# Altium schematic symbol library Ultrascale_SchLib.SchLib: 186 symbols (part 3 of 4)
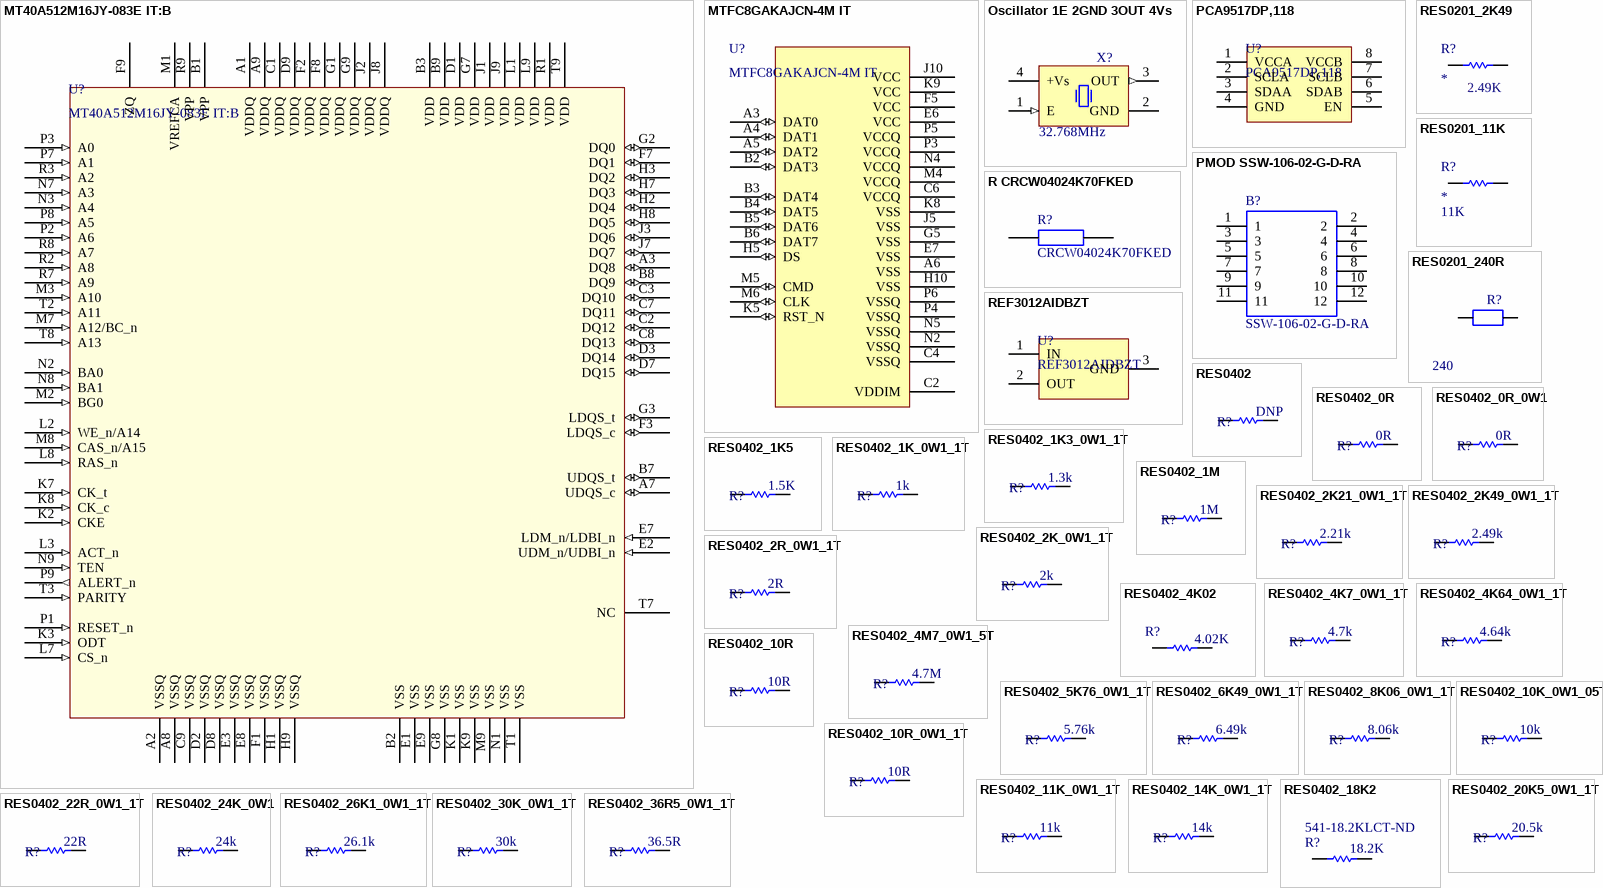
[diagram p10: symbols MT40A512M16JY-083E IT:B to RES0402_36R5_0W1_1T]

## RES0402_11K_0W1_1T
designator R?  value 11k  (hidden comment: RES0402_11K_0W1_1T)
RES SMD 11K OHM 1% 1/10W 0402; Manufacturer 1: Panasonic Electronic Components; Manufacturer Part Number 1: ERJ-2RKF1102X; Package: 0402; ComponentLink1Description: Datasheet; Power: 1/10W; Tolerance: 1%; Supplier 1: Digi-Key; Supplier Part Number 1: P11.0KLCT-ND
footprint RESC1005L_0402 (Chip Resistor, Body 1.1x0.5mm, IPC High Density)
simulation model RESISTOR (Resistor)
signal-integrity model Res
pins: 1, 2

## RES0402_14K_0W1_1T
designator R?  value 14k  (hidden comment: RES0402_14K_0W1_1T)
RES SMD 14K OHM 1% 1/10W 0402; Manufacturer 1: Panasonic Electronic Components; Manufacturer Part Number 1: ERJ-2RKF1402X; Package: 0402; ComponentLink1Description: Datasheet; Power: 1/10W; Tolerance: 1%; Supplier 1: Digi-Key; Supplier Part Number 1: P14.0KLCT-ND
footprint RESC1005L_0402 (Chip Resistor, Body 1.1x0.5mm, IPC High Density)
simulation model RESISTOR (Resistor)
signal-integrity model Res
pins: 1, 2

## RES0402_18K2
designator R?  value 18.2K  Supplier Part Number 1: 541-18.2KLCT-ND  (hidden comment: *)
RES SMD 18.2K OHM 1% 1/16W 0402; Manufacturer_Part_Number: CRCW040218K2FKED; Vendor: Vishay; Supersection: Passives; Section: Resistors; C: Copyright (C) 2015 Accelerated Designs. All rights reserved; Family: Surface Mount, Fixed; Manufacturer_Name: Vishay; Copyright: Copyright (C) 2015 Accelerated Designs. All rights reserved; RS_Part_Number: 6784684; Supplier 1: Digi-Key
footprint RES_CRCW_0402
pins: 1, 2

## RES0402_20K5_0W1_1T
designator R?  value 20.5k  (hidden comment: RES0402_20K5_0W1_1T)
RES SMD 20.5K OHM 1% 1/10W 0402; Manufacturer 1: Panasonic Electronic Components; Manufacturer Part Number 1: ERJ-2RKF2052X; Package: 0402; ComponentLink1Description: Datasheet; Power: 1/10W; Tolerance: 1%; Supplier 1: Digi-Key; Supplier Part Number 1: P20.5KLCT-ND
footprint RESC1005L_0402 (Chip Resistor, Body 1.1x0.5mm, IPC High Density)
simulation model RESISTOR (Resistor)
signal-integrity model Res
pins: 1, 2

## RES0402_22R_0W1_1T
designator R?  value 22R  (hidden comment: RES0402_22R_0W1_1T)
RES SMD 22 OHM 1% 1/10W 0402; Manufacturer 1: Panasonic Electronic Components; Manufacturer Part Number 1: ERJ-2RKF22R0X; Package: 0402; ComponentLink1Description: Datasheet; Power: 1/10W; Tolerance: 1%; Supplier 1: Digi-Key; Supplier Part Number 1: P22.0LCT-ND
footprint RESC1005L_0402 (Chip Resistor, Body 1.1x0.5mm, IPC High Density)
simulation model RESISTOR (Resistor)
signal-integrity model Res
pins: 1, 2

## RES0402_24K_0W1
designator R?  value 24k  (hidden comment: RES0402_24K_0W1)
RES SMD 24K OHM 1% 1/10W 0402; Manufacturer 1: Panasonic Electronic Components; Manufacturer Part Number 1: ERJ-2RKF2402X; Package: 0402; ComponentLink1Description: Datasheet; Power: 1/10W; Tolerance: 1%; Supplier 1: Digi-Key; Supplier Part Number 1: P24.0KLCT-ND
footprint RESC1005L_0402 (Chip Resistor, Body 1.1x0.5mm, IPC High Density)
simulation model RESISTOR (Resistor)
signal-integrity model Res
pins: 1, 2

## RES0402_26K1_0W1_1T
designator R?  value 26.1k  (hidden comment: RES0402_26K1_0W1_1T)
RES SMD 26.1K OHM 1% 1/10W 0402; Manufacturer 1: Panasonic Electronic Components; Manufacturer Part Number 1: ERJ-2RKF2612X; Package: 0402; ComponentLink1Description: Datasheet; Power: 1/10W; Tolerance: 1%; Supplier 1: Digi-Key; Supplier Part Number 1: P26.1KLCT-ND
footprint RESC1005L_0402 (Chip Resistor, Body 1.1x0.5mm, IPC High Density)
simulation model RESISTOR (Resistor)
signal-integrity model Res
pins: 1, 2

## RES0402_30K_0W1_1T
designator R?  value 30k  (hidden comment: RES0402_30K_0W1_1T)
RES SMD 30K OHM 1% 1/10W 0402; Manufacturer 1: Panasonic Electronic Components; Manufacturer Part Number 1: ERJ-2RKF3002X; Package: 0402; ComponentLink1Description: Datasheet; Power: 1/10W; Tolerance: ±1%; Supplier 1: Digikey; Supplier Part Number 1: P30.0KLCT-ND
footprint RESC1005L_0402 (Chip Resistor, Body 1.1x0.5mm, IPC High Density)
pins: 1, 2

## RES0402_36R5_0W1_1T
designator R?  value 36.5R  (hidden comment: RES0402_36R5_0W1_1T)
RES SMD 36.5 OHM 1% 1/10W 0402; Manufacturer 1: Panasonic Electronic Components; Manufacturer Part Number 1: ERJ-2RKF36R5X; Package: 0402; ComponentLink1Description: Datasheet; Power: 1/10W; Tolerance: 1%; Supplier 1: Digi-Key; Supplier Part Number 1: P36.5LCT-ND
footprint RESC1005L_0402 (Chip Resistor, Body 1.1x0.5mm, IPC High Density)
simulation model RESISTOR (Resistor)
signal-integrity model Res
pins: 1, 2

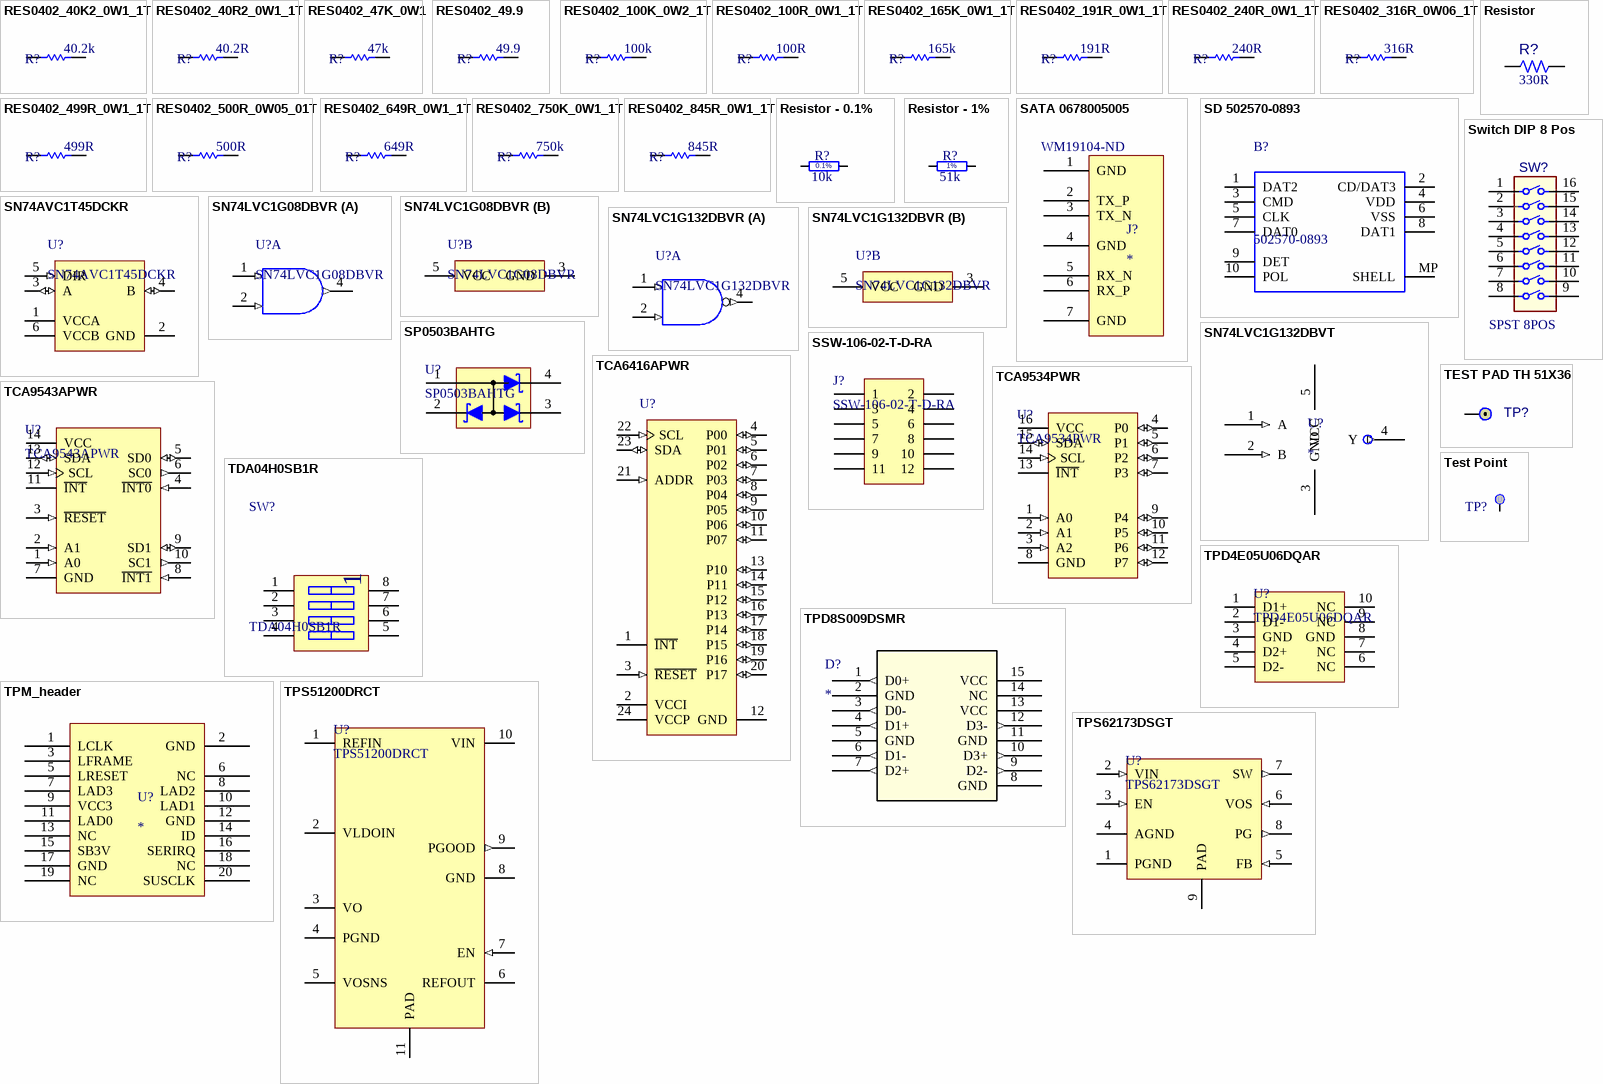
[diagram p5: symbols RES0402_40K2_0W1_1T to TPS62173DSGT]

## RES0402_40K2_0W1_1T
designator R?  value 40.2k  (hidden comment: RES0402_40K2_0W1_1T)
RES SMD 40.2K OHM 1% 1/10W 0402; Manufacturer 1: Panasonic Electronic Components; Manufacturer Part Number 1: ERJ-2RKF4022X; Package: 0402; ComponentLink1Description: Datasheet; Power: 1/10W; Tolerance: 1%; Supplier 1: Digi-Key; Supplier Part Number 1: P40.2KLCT-ND
footprint RESC1005L_0402 (Chip Resistor, Body 1.1x0.5mm, IPC High Density)
simulation model RESISTOR (Resistor)
signal-integrity model Res
pins: 1, 2

## RES0402_40R2_0W1_1T
designator R?  value 40.2R  (hidden comment: RES0402_40R2_0W1_1T)
RES SMD 40.2 OHM 1% 1/10W 0402; Manufacturer 1: Panasonic Electronic Components; Manufacturer Part Number 1: ERJ-2RKF40R2X; Package: 0402; ComponentLink1Description: Datasheet; Power: 1/10W; Tolerance: 1%; Supplier 1: Digi-Key; Supplier Part Number 1: P40.2LCT-ND
footprint RESC1005L_0402 (Chip Resistor, Body 1.1x0.5mm, IPC High Density)
simulation model RESISTOR (Resistor)
signal-integrity model Res
pins: 1, 2

## RES0402_47K_0W1
designator R?  value 47k  (hidden comment: RES0402_47K_0W1)
RES SMD 47K OHM 1% 1/10W 0402; Manufacturer 1: Panasonic Electronic Components; Manufacturer Part Number 1: ERJ-2RKF4702X; Package: 0402; ComponentLink1Description: Datasheet; Power: 1/10W; Tolerance: 1%; Supplier 1: Digi-Key; Supplier Part Number 1: P47.0KLCT-ND
footprint RESC1005L_0402 (Chip Resistor, Body 1.1x0.5mm, IPC High Density)
simulation model RESISTOR (Resistor)
signal-integrity model Res
pins: 1, 2

## RES0402_49.9
designator R?  value 49.9
RES SMD 49.9 OHM 1% 1/16W 0402; Manufacturer: Vishay Dale; Manufacturer Part Number: CRCW040249R9FKED; Power: 0.063W, 1/16W; Package: 0402; ComponentLink1Description: Datasheet; Tolerance: 1%; Supplier 1: Digi-Key; Supplier Part Number 1: 311-49.9LRCT-ND
footprint RESC1005L_0402 (Chip Resistor, Body 1.1x0.5mm, IPC High Density)
simulation model RESISTOR (Resistor)
signal-integrity model Res
pins: 1, 2

## RES0402_100K_0W2_1T
designator R?  value 100k  (hidden comment: RES0402_100K_0W2_1T)
RES SMD 100K OHM 1% 1/5W 0402; Manufacturer 1: Vishay Dale; Manufacturer Part Number 1: RCS0402100KFKED; Package: 0402; ComponentLink1Description: Datasheet; Power: 1/5W; Tolerance: 1%; Supplier 1: Digi-Key; Supplier Part Number 1: 541-2899-1-ND
footprint RESC1005L_0402 (Chip Resistor, Body 1.1x0.5mm, IPC High Density)
simulation model RESISTOR (Resistor)
signal-integrity model Res
pins: 1, 2

## RES0402_100R_0W1_1T
designator R?  value 100R  (hidden comment: RES0402_100R_0W1_1T)
RES SMD 100 OHM 1% 1/10W 0402; Manufacturer 1: Panasonic Electronic Components; Manufacturer Part Number 1: ERJ-2RKF1000X; Package: 0402; ComponentLink1Description: Datasheet; Power: 1/10W; Tolerance: 1%; Supplier 1: Digi-Key; Supplier Part Number 1: P100LCT-ND
footprint RESC1005L_0402 (Chip Resistor, Body 1.1x0.5mm, IPC High Density)
simulation model RESISTOR (Resistor)
signal-integrity model Res
pins: 1, 2

## RES0402_165K_0W1_1T
designator R?  value 165k  (hidden comment: RES0402_165K_0W1_1T)
RES SMD 165K OHM 1% 1/10W 0402; Manufacturer 1: Panasonic Electronic Components; Manufacturer Part Number 1: ERJ-2RKF1653X; Package: 0402; ComponentLink1Description: Datasheet; Power: 1/10W; Tolerance: ±1%; Supplier 1: Digikey; Supplier Part Number 1: P165KLCT-ND
footprint RESC1005L_0402 (Chip Resistor, Body 1.1x0.5mm, IPC High Density)
pins: 1, 2

## RES0402_191R_0W1_1T
designator R?  value 191R  (hidden comment: RES0402_191R_0W1_1T)
RES SMD 191 OHM 1% 1/10W 0402; Manufacturer 1: Panasonic Electronic Components; Manufacturer Part Number 1: ERJ-2RKF1910X; Package: 0402; ComponentLink1Description: Datasheet; Power: 1/10W; Tolerance: 1%; Supplier 1: Digi-Key; Supplier Part Number 1: P191LCT-ND
footprint RESC1005L_0402 (Chip Resistor, Body 1.1x0.5mm, IPC High Density)
simulation model RESISTOR (Resistor)
signal-integrity model Res
pins: 1, 2

## RES0402_240R_0W1_1T
designator R?  value 240R  (hidden comment: RES0402_240R_0W1_1T)
RES SMD 240 OHM 1% 1/10W 0402; Manufacturer 1: Panasonic Electronic Components; Manufacturer Part Number 1: ERJ-2RKF2400X; Package: 0402; ComponentLink1Description: Datasheet; Power: 1/10W; Tolerance: 1%; Supplier 1: Digi-Key; Supplier Part Number 1: P240LCT-ND
footprint RESC1005L_0402 (Chip Resistor, Body 1.1x0.5mm, IPC High Density)
simulation model RESISTOR (Resistor)
signal-integrity model Res
pins: 1, 2

## RES0402_316R_0W06_1T
designator R?  value 316R  (hidden comment: RES0402_316R_0W06_1T)
RES SMD 316 OHM 1% 1/16W 0402; Manufacturer 1: Vishay Dale; Manufacturer Part Number 1: CRCW0402316RFKED; Package: 0402; ComponentLink1Description: Datasheet; Power: 1/16W; Tolerance: 1%; Supplier 1: Digi-Key; Supplier Part Number 1: 541-316LCT-ND
footprint RESC1005L_0402 (Chip Resistor, Body 1.1x0.5mm, IPC High Density)
simulation model RESISTOR (Resistor)
signal-integrity model Res
pins: 1, 2

## RES0402_499R_0W1_1T
designator R?  value 499R  (hidden comment: RES0402_499R_0W1_1T)
RES SMD 499 OHM 1% 1/16W 0402; Manufacturer 1: Vishay Dale; Manufacturer Part Number 1: CRCW0402499RFKTD; Power: 1/10W; Package: 0402; ComponentLink1Description: Datasheet; Tolerance: 1%; Supplier 1: Digi-Key; Supplier Part Number 1: 541-2962-1-ND
footprint RESC1005L_0402 (Chip Resistor, Body 1.1x0.5mm, IPC High Density)
simulation model RESISTOR (Resistor)
signal-integrity model Res
pins: 1, 2

## RES0402_500R_0W05_01T
designator R?  value 500R  (hidden comment: RES0402_500R_0W05_01T)
RES SMD 500 OHM 0.1% 1/20W 0402; Manufacturer 1: Vishay Dale; Manufacturer Part Number 1: PNM0402E5000BST1; Power: 1/10W; Package: 0402; ComponentLink1Description: Datasheet; Tolerance: 0.1%; Supplier 1: Digi-Key; Supplier Part Number 1: 541-1905-1-ND
footprint RESC1005L_0402 (Chip Resistor, Body 1.1x0.5mm, IPC High Density)
simulation model RESISTOR (Resistor)
signal-integrity model Res
pins: 1, 2

## RES0402_649R_0W1_1T
designator R?  value 649R  (hidden comment: RES0402_649R_0W1_1T)
RES SMD 649 OHM 1% 1/10W 0402; Manufacturer 1: Panasonic Electronic Components; Manufacturer Part Number 1: ERJ-2RKF6490X; Package: 0402; ComponentLink1Description: Datasheet; Power: 1/10W; Tolerance: 1%; Supplier 1: Digi-Key; Supplier Part Number 1: P649LCT-ND
footprint RESC1005L_0402 (Chip Resistor, Body 1.1x0.5mm, IPC High Density)
simulation model RESISTOR (Resistor)
signal-integrity model Res
pins: 1, 2

## RES0402_750K_0W1_1T
designator R?  value 750k  (hidden comment: RES0402_750K_0W1_1T)
RES SMD 750K OHM 1% 1/10W 0402; Manufacturer 1: Panasonic Electronic Components; Manufacturer Part Number 1: ERJ-2RKF7503X; Package: 0402; ComponentLink1Description: Datasheet; Power: 1/10W; Tolerance: 1%; Supplier 1: Digi-Key; Supplier Part Number 1: P750KLCT-ND
footprint RESC1005L_0402 (Chip Resistor, Body 1.1x0.5mm, IPC High Density)
simulation model RESISTOR (Resistor)
signal-integrity model Res
pins: 1, 2

## RES0402_845R_0W1_1T
designator R?  value 845R  (hidden comment: RES0402_845R_0W1_1T)
RES SMD 845 OHM 1% 1/10W 0402; Manufacturer 1: Panasonic Electronic Components; Manufacturer Part Number 1: ERJ-2RKF8450X; Package: 0402; ComponentLink1Description: Datasheet; Power: 1/10W; Tolerance: 1%; Supplier 1: Digi-Key; Supplier Part Number 1: P845LCT-ND
footprint RESC1005L_0402 (Chip Resistor, Body 1.1x0.5mm, IPC High Density)
simulation model RESISTOR (Resistor)
signal-integrity model Res
pins: 1, 2

## Resistor
designator R?  value 330R  (hidden comment: Resistor)
Manufacturer 1: Panasonic; Manufacturer Part Number 1: ERJ-3GEYJ331V; MCHP-ID: RSMT0166; Tolerance: 5%; Description_: RES TKF 330R 5% 1/10W SMD 0603; Dev Tools Status: Production; Voltage: 75V; Temperature Coeffcient: 200ppm/C; Power: 1/10W; Populated: Yes; Package: 0603; Revision: 1; Status: MCL Design; ComponentLink1URL: https://chn-vm-apps.microchip.com/mchprepo/parts/Datasheets/AOA0000CE1.pdf; ComponentLink1Description: Datasheet; Operating Temperature: -55C to +155C; Category: Resistor; Type: RES SMD; Composition: TKF; Manufacturer 2: KOA Speer; Manufacturer Part Number 2: RK73B1JTTD331J; Manufacturer 3: Stackpole Electronics Inc; Manufacturer Part Number 3: RMCF 1/16 330 5% R; Supplier 1: Digi-Key; Supplier Part Number 1: P330GTR-ND; Supplier 2: KOA Speer; Supplier Part Number 2: RK73B1JTTD331J; Supplier 3: Stackpole Electronics Inc; Supplier Part Number 3: RMCF 1/16 330 5% R; Quantity Override: 1
footprint RES_C_0603 (Chip Resistor, 2-Leads, Body 1.6x0.8mm, IPC Medium Density)
pins: 1, 2

## Resistor - 0.1%
designator R?, comment 10k
Resistor - 0.1%; Part Number: R0603_10K_0.1%_0.063W_10PPM; Part Description: Thin Film Chip Resistor; Manufacturer: Panasonic Electronic Components; Manufacturer Part Number: ERJ-3GEYJ103V; Manufacturer1 Part Number: RN73C1J10KBTDF; Power: 0.063W; TC: ±10ppm; Tolerance: ±5%; Table: Resistors SMD; Temperature Coefficient: ±200ppm/°C; Power (Watts): 0.1W, 1/10W; Component Kind: Standard; Component Type: Standard; Footprint: RESC1608X55N; Pin Count: 2; Value: 10k; Status: Not recommended; Case: 0603; Mounted: Yes; Socket: No; SMD: Yes; Manufacturer1 Example: TYCO HOLSWORTHY; Manufacturer1 ComponentHeight: 0.5mm; HelpURL: \\cern.ch\dfs\Applications\Altium\Datasheets\R0603_Tyco_RN73.pdf; Author: CERN DEM JLC; CreateDate: 3.12.2007; LatestRevisionDate: 13.03.2008; Supplier: Digi-Key; Supplier Part Number: P10KGDKR-ND; Category: Resistors; Height: 0.022" (0.55mm); Operating Temperature: -55°C ~ 155°C; Number of Terminations: 2; Composition: Thick Film; Features: Automotive AEC-Q200; RoHS: RoHS Compliant; Supplier Device Package: 0603; Size / Dimension: 0.063" L x 0.031" W (1.60mm x 0.80mm); Packaging: Digi-Reel®; Resistance (Ohms): 10k; Package / Case: 0603 (1608 Metric)
footprint RESC1608X55N
pins: 1, 2
text: 0.1%

## Resistor - 1%
designator R?, comment 51k
Resistor - 1%; Part Number: R0603_51K_1%_0.1W_100PPM; Part Description: General Purpose Thick Film Chip Resistor; Manufacturer: Yageo; Manufacturer Part Number: RC0603JR-0751KL; Manufacturer1 Part Number: NRC06F5102TRF; Power: 0.1W; TC: ±100ppm/°C; Tolerance: ±5%; Table: Resistors SMD; Power (Watts): 0.1W, 1/10W; Component Kind: Standard; Component Type: Standard; Footprint: RESC1608X55N; Pin Count: 2; Value: 51k; Status: Preferred; Case: 0603; Mounted: Yes; Socket: No; SMD: Yes; Manufacturer1 Example: NIC COMPONENT; Manufacturer1 ComponentHeight: 0.55mm; HelpURL: \\cern.ch\dfs\Applications\Altium\Datasheets\R0603_NIC_NRC.pdf; Author: CERN DEM JLC; CreateDate: 3.12.2007; LatestRevisionDate: 13.03.2008; Height: 0.022" (0.55mm); Features: Moisture Resistant; RoHS: RoHS Compliant; Number of Terminations: 2; Category: Resistors; Composition: Thick Film; Resistance (Ohms): 51k; Size / Dimension: 0.063" L x 0.031" W (1.60mm x 0.80mm); Supplier Part Number: 311-51KGRCT-ND; Supplier Device Package: 0603; Package / Case: 0603 (1608 Metric); Supplier: Digi-Key; Temperature Coefficient: ±100ppm/°C; Packaging: Cut Tape (CT); Operating Temperature: -55°C ~ 155°C
footprint RESC1608X55N
pins: 1, 2
text: 1%

## SATA 0678005005
designator J?  Supplier Part Number 1: WM19104-ND
CONN HEADER 7POS VERT SMD 15GOLD; Manufacturer: Molex, LLC; Manufacturer Part Number: 0678005005; Connector Style: Header, Shrouded; Connector Type: SATA; Number of Positions: 7; Digi-Key Part Number: WM19104-ND; Series: 67800; Part Status: Active; Mounting Type: Surface Mount; Termination: Solder; Features: Board Guide; Contact Finish: Gold; Contact Finish Thickness: 15µin (0.38µm); Supplier 1: Digi-Key
footprint SATA HEADER
pins: 1 GND (power), 2 TX_P (power), 3 TX_N (power), 4 GND (power), 5 RX_N (power), 6 RX_P (power), 7 GND (power)

## SD 502570-0893
designator B?, comment 502570-0893
Micro SD card connector,SMT,push-push Micro SD card connector,SMT,push-push; Manufacturer_Name: Molex; Geometry.Height: mm; Detailed Description: 10 (8 + 2) Position Card Connector Secure Digital - microSD™ Surface Mount, Right Angle Gold; Card Type: Secure Digital - microSD™; Number of Positions: 10 (8 + 2); Connector Type: Connector and Ejector; Insertion, Removal Method: Push In, Push Out; Manufacturer_Part_Number: 502570-0893; Datasheet Link: http://www.molex.com/molex/products/datasheet.jsp?part=active/5025700893_MEMORY_CARD_SOCKET.xml; Digi-Key Part Number: WM19093CT-ND; Series: 502570; Mounting Type: Surface Mount, Right Angle; Features: Switch; Height Above Board: 0.071" (1.80mm); Mounting Feature: Normal, Standard - Top; Contact Finish: Gold; Contact Finish Thickness: 20µin (0.51µm); Supplier 1: Digi-Key; Supplier Part Number 1: WM19093CT-ND
footprint 502570-0893_1
pins: 1 DAT2, 2 CD/DAT3, 3 CMD, 4 VDD, 5 CLK, 6 VSS, 7 DAT0, 8 DAT1, 9 DET, 10 POL, MP SHELL

## SN74AVC1T45DCKR
designator U?
Single-Bit Dual-Supply Bus Transceiver with Configurable Voltage Translation and 3-State Outputs, DCK0006A, LARGE T&R; Manufacturer 1: Texas Instruments; VCC(Min)(V): 1.2; VCC(Max)(V): 3.6; Output Type: CMOS; Logic: True; ICC @ Nom Voltage(Max)(mA): 0.0009; Bits(#): 1; F @ Nom Voltage(Max)(Mhz): 100; Rating: Catalog; Technology Family: AVC; Voltage(Nom)(V): 1.2,1.5,1.8,2.5,3.3; Schmitt Trigger: No; Output Drive (IOL/IOH)(Max)(mA): 12/-12; Sub-Family: Dual Supply Translator; 3-State Output: Yes; tpd @ Nom Voltage(Max)(ns): 2.9,5.6,5.2,4.2,3.8; DatasheetVersion: SCES530H; PackageReference: DCK0006A; Supplier 2: Mouser; Supplier Part Number 2: 595-SN74AVC1T45DCKR; Supplier 1: Digi-Key; Supplier Part Number 1: 296-17992-2-ND; Supplier 3: Digi-Key; Supplier Part Number 3: 296-17992-1-ND; Supplier 4: Digi-Key; Supplier Part Number 4: 296-17992-6-ND; Generic Part Number: SN74AVC1T45; Input Type: CMOS; Operating Temperature Range(C): -40 to 85; Manufacturer Part Number 1: SN74AVC1T45DCKR; ComponentLink1Description: Manufacturer URL; ComponentLink1URL: C:\Users\Public\Documents\Altium\AD16\Library\PDF\sn74avc1t45.pdf
footprint DCK0006A_N (SOT23, 6-Leads, Body 2.15x1.4mm, Pitch 0.65mm, IPC Medium Density)
pins: 1 VCCA (power), 2 GND (power), 3 A (io), 4 B (io), 5 DIR (in), 6 VCCB (power)

## SN74LVC1G08DBVR
designator U?
Single 2-Input Positive-AND Gate, DBV0005A, LARGE T&R; Manufacturer 1: Texas Instruments; VCC(Min)(V): 1.65; VCC(Max)(V): 5.5; Output Type: CMOS; ICC @ Nom Voltage(Max)(mA): 0.01; Input Type: CMOS/TTL; Bits(#): 1; F @ Nom Voltage(Max)(Mhz): 150; Rating: Catalog; Technology Family: LVC; Voltage(Nom)(V): 1.8,2.5,3.3,5; Schmitt Trigger: No; Output Drive (IOL/IOH)(Max)(mA): 32/-32; tpd @ Nom Voltage(Max)(ns): 4.5,6,4,5; Logic: True; Gate Type: AND; DatasheetVersion: SCES217Y; PackageReference: DBV0005A; Supplier 2: Mouser; Supplier Part Number 2: 595-SN74LVC1G08DBVR; Supplier 1: Digi-Key; Supplier Part Number 1: 296-11601-2-ND; Supplier 3: Digi-Key; Supplier Part Number 3: 296-11601-1-ND; Supplier 4: Digi-Key; Supplier Part Number 4: 296-11601-6-ND; Generic Part Number: SN74LVC1G08; Operating Temperature: -40°C ~ 125°C; Sub-Family: AND Gate; 3-State Output: No; Manufacturer Part Number 1: SN74LVC1G08DBVR; ComponentLink1Description: Manufacturer URL; ComponentLink1URL: C:\Users\Public\Documents\Altium\AD16\Library\PDF\sn74lvc1g08.pdf
footprint DBV0005A_N (SOT23, 5-Leads, Body 3.05x1.75mm, Pitch 0.95mm, IPC Medium Density)
part A pins: 1 A (in) "Input A", 2 B (in) "Input B", 4 Y (out) "Output Y"
part B pins: 3 GND (power) "Ground Pin", 5 VCC (power) "Power Pin"

## SN74LVC1G132DBVR
designator U?
Single 2-Input NAND Gate with Schmitt-Trigger Input, DBV0005A, LARGE T&R; Manufacturer 1: Texas Instruments; VCC(Min)(V): 1.65; VCC(Max)(V): 5.5; Output Type: CMOS; ICC @ Nom Voltage(Max)(mA): 0.01; Input Type: CMOS/TTL; Bits(#): 1; F @ Nom Voltage(Max)(Mhz): 150; Rating: Catalog; Technology Family: LVC; Voltage(Nom)(V): 1.8,2.5,3.3,5; Schmitt Trigger: Yes; Output Drive (IOL/IOH)(Max)(mA): 32/-32; tpd @ Nom Voltage(Max)(ns): 16,7.5,6,5; Logic: True; 3-State Output: No; DatasheetVersion: SCES546C; PackageReference: DBV0005A; Supplier 2: Mouser; Supplier Part Number 2: 595-SN74LVC1G132DBVR; Supplier 1: Digi-Key; Supplier Part Number 1: 296-17888-2-ND; Supplier 3: Digi-Key; Supplier Part Number 3: 296-17888-1-ND; Supplier 4: Digi-Key; Supplier Part Number 4: 296-17888-6-ND; Generic Part Number: SN74LVC1G132; Operating Temperature: -40 to 125; Gate Type: NAND; Sub-Family: NAND Gate; Manufacturer Part Number 1: SN74LVC1G132DBVR; ComponentLink1Description: Datasheet; ComponentLink1URL: C:\Users\Public\Documents\Altium\AD16\Library\PDF\sn74lvc1g132.pdf
footprint DBV0005A_N (SOT23, 5-Leads, Body 3.05x1.75mm, Pitch 0.95mm, IPC Medium Density)
part A pins: 1 A (in) "Input A", 2 B (in) "Input B", 4 Y (out) "Output Y"
part B pins: 3 GND (power) "Ground Pin", 5 VCC (power) "Power Pin"

## SN74LVC1G132DBVT
designator U?
IC GATE NAND 1CH 2-INP SOT-23-5; Manufacturer Part Number: SN74LVC1G132DBVT; Manufacturer: Texas Instruments; Detailed Description: NAND Gate IC 1 Channel Schmitt Trigger SOT-23-5; Logic Type: NAND Gate; Number of Circuits: 1; Number of Inputs: 2; Voltage - Supply: 1.65 V ~ 5.5 V; Current - Quiescent (Max): 10µA; Current - Output High, Low: 32mA, 32mA; Logic Level - Low: 0.39 V ~ 1.87 V; Logic Level - High: 1.16 V ~ 3.33 V; Max Propagation Delay @ V, Max CL: 5ns @ 5V, 50pF; Digi-Key Part Number: 296-32295-1-ND; Series: 74LVC; Features: Schmitt Trigger; Operating Temperature: -40°C ~ 125°C; Mounting Type: Surface Mount; Supplier Device Package: SOT-23-5; Package / Case: SC-74A, SOT-753; Supplier 1: Digi-Key; Supplier Part Number 1: 296-32295-1-ND
footprint SN74LVC1G132DBVT (IC GATE NAND 1CH 2-INP SOT-23-5)
pins: 1 A (in), 2 B (in), 3 GND (power), 4 Y (out), 5 VCC (power)

## SP0503BAHTG
designator U?
IC TXRX USB 2.0 FLEXPWR 32QFN; Manufacturer 1: Littelfuse Inc.; ComponentLink1Description: Datasheet; ComponentLink1URL: C:\Users\Public\Documents\Altium\AD16\Library\PDF\SP05xxBA.pdf; Supplier 1: Digi-Key; Supplier Part Number 1: F2715CT-ND; Manufacturer Part Number 1: SP0503BAHTG; Operating Temperature: -40°C ~ 85°C (TA)
footprint SP0503BAHT_SOT143 (LITTELFUSE TVS DIODE 5.5VWM 8.5VC SOT143)
pins: 1, 2, 3, 4

## SSW-106-02-T-D-RA
designator J?
CONN RCPT .100" 12PS DL R/A TIN; Manufacturer 1: Samtec Inc.; ComponentLink1Description: Datasheet; ComponentLink1URL: C:\Users\Public\Documents\Altium\AD16\Library\PDF\ssw-1xx-xx-xxx-x-xx-xxx-xx-mkt.pdf; Supplier 1: Digi-Key; Supplier Part Number 1: SAM10026-ND; Manufacturer Part Number 1: SSW-106-02-T-D-RA; Operating Temperature: -55°C ~ 105°C; Insulation Height: 0.195" (4.95mm)
footprint HDR2X6H (Connector; Header; 6x2 Position; Right Angle)
pins: 1, 2, 3, 4, 5, 6, 7, 8, 9, 10, 11, 12

## Switch DIP 8 Pos
designator SW?, comment SPST 8POS
Switch DIP SPST 8POS SMD; Manufacturer 1: TE Connectivity Alcoswitch Switches; Manufacturer Part Number 1: 1-1825058-9; Description_: SWITCH SLIDE SPST 24V 100mA 1825058-9EXT ACT 8POS 24V; Voltage Rating: 24VDC; Populated: Yes; Supplier 1: Mouser; Supplier 2: Digi-Key; RoHS: Yes; ComponentLink1URL: http://www.te.com/commerce/DocumentDelivery/DDEController?Action=srchrtrv&DocNm=1825058&DocType=Customer+Drawing&DocLang=English; ComponentLink1Description: http://www.te.com/commerce/DocumentDelivery/DDEController?Action=srchrtrv&DocNm=1825058&DocType=Customer+Drawing&DocLang=English; Supplier Part Number 1: 506-ADE08S04; Supplier Part Number 2: 1-1825058-9-ND; Value: SPST 8POS
footprint SW_SM_8POS24V_TE (Switch DIP8 SMD Gull Wing)
pins: 1, 2, 3, 4, 5, 6, 7, 8, 9, 10, 11, 12, 13, 14, 15, 16

## TCA6416APWR
designator U?
Low-Voltage 16-Bit I2C and SMBus I/O Expander, 16 Outputs, 1.65 to 5.5 V, -40 to 85 degC, 24-pin TSSOP (PW), Green (RoHS & no Sb/Br); Manufacturer: Texas Instruments; PartNumber: TCA6416APWR; SubFamily: I2C IO Expander; No. of Outputs: 16; Interrupt Output: Yes; fSCLK(Max)(MHz): 400; VCC(Min)(V): 1.65; VCC(Max)(V): 5.5; I2C Address: 0100 00x; DatasheetVersion: SCPS194A; PackageVersion: revG, Feb-2011; PackageReference: PW24; PackageDescription: 24-Pin Thin Small Outline Package 0.65 mm Pitch; Supplier 1: Arrow; Supplier Part Number 1: 47581856S8237284N7713; Supplier 2: Digi-Key; Supplier Part Number 2: 296-24536-2-ND; Supplier 3: Digi-Key; Supplier Part Number 3: 296-24536-1-ND; Supplier 4: Digi-Key; Supplier Part Number 4: 296-24536-6-ND; Supplier 5: Farnell; Supplier Part Number 5: 2101304; Supplier 6: Newark; Supplier Part Number 6: 10R6151; Supplier 7: Mouser; Supplier Part Number 7: 595-TCA6416APWR; Eco-Plan: Green (RoHS & no Sb/Br); Reset Input: Yes; Max Frequency(kHz): 400; # of I/Os: 16; Vcc range(V): 1.65 to 5.5; Low Power: Yes; Configuration Registers: Yes; 5V Tolerant I/O: Yes; Push-Pull I/O Type: Yes; Mounting Technology: Surface Mount; Code_JEDEC: MO-153; ComponentLink1Description: Datasheet; ComponentLink1URL: http://www.ti.com/general/docs/lit/getliterature.tsp?genericPartNumber=TCA6416A&fileType=pdf; ComponentLink2Description: Package Specification; ComponentLink2URL: http://www.ti.com/litv/pdf/mpds177g
footprint PW24_L (TSOP, 24-Leads, Body 7.8x4.4mm, Pitch 0.65mm, IPC High Density)
pins: 1 ~{INT} (oc) "Interrupt output. Connect to VCCl or Vccp through a pullup resistor.", 2 VCCI (power) "Supply voltage of I2C bus. Connect directly to the VCC of the external I2C master. Provides voltage leveltranslation", 3 ~{RESET} (in) "Active-low reset input. Connect to VCCI through a pullup resistor, if no active connection is used.", 4 P00 (io) "P-port input/output. (Push-pull design structure). At power-on, P00 is configured as an input.", 5 P01 (io) "P-port input/output. (Push-pull design structure). At power-on, P01 is configured as an input.", 6 P02 (io) "P-port input/output. (Push-pull design structure). At power-on, P02 is configured as an input.", 7 P03 (io) "P-port input/output. (Push-pull design structure). At power-on, P03 is configured as an input.", 8 P04 (io) "P-port input/output. (Push-pull design structure). At power-on, P04 is configured as an input.", 9 P05 (io) "P-port input/output. (Push-pull design structure). At power-on, P05 is configured as an input.", 10 P06 (io) "P-port input/output. (Push-pull design structure). At power-on, P06 is configured as an input.", 11 P07 (io) "P-port input/output. (Push-pull design structure). At power-on, P07 is configured as an input.", 12 GND (power) "Ground", 13 P10 (io) "P-port input/output. (Push-pull design structure). At power-on, P10 is configured as an input.", 14 P11 (io) "P-port input/output. (Push-pull design structure). At power-on, P11 is configured as an input.", 15 P12 (io) "P-port input/output. (Push-pull design structure). At power-on, P12 is configured as an input.", 16 P13 (io) "P-port input/output. (Push-pull design structure). At power-on, P13 is configured as an input.", 17 P14 (io) "P-port input/output. (Push-pull design structure). At power-on, P14 is configured as an input.", 18 P15 (io) "P-port input/output. (Push-pull design structure). At power-on, P15 is configured as an input.", 19 P16 (io) "P-port input/output. (Push-pull design structure). At power-on, P16 is configured as an input.", 20 P17 (io) "P-port input/output. (Push-pull design structure). At power-on, P17 is configured as an input.", 21 ADDR (in) "Address input. Connect directly to VCCP or ground", 22 SCL (in) "Serial clock bus. Connect to VCCI through a pullup resistor.", 23 SDA (io) "Serial data bus. Connect to VCCI through a pullup resistor.", 24 VCCP (power) "Supply voltage of TCA6416A for P port"

## TCA9534PWR
designator U?
IC I/O EXPANDER I2C 8B 16TSSOP; Manufacturer 1: Texas Instruments; ComponentLink1Description: Datasheet; ComponentLink1URL: C:\Users\Public\Documents\Altium\AD16\Library\PDF\tca9534.pdf; Supplier 1: Digi-Key; Supplier Part Number 1: 296-40574-1-ND; Manufacturer Part Number 1: TCA9534PWR; Operating Temperature: -40°C ~ 85°C
footprint TSOP_PW16_L (TSOP, 16-Leads, Body 5x4.4mm, Pitch 0.65mm, IPC High Density)
pins: 1 A0 (in) "Address input. Connect directly to VCC or ground.", 2 A1 (in) "Address input. Connect directly to VCC or ground.", 3 A2 (in) "Address input. Connect directly to VCC or ground.", 4 P0 (io) "P-port input/output. Push-pull design structure. At power-on, P0 is configured as an input.", 5 P1 (io) "P-port input/output. Push-pull design structure. At power-on, P1 is configured as an input.", 6 P2 (io) "P-port input/output. Push-pull design structure. At power-on, P2 is configured as an input.", 7 P3 (io) "P-port input/output. Push-pull design structure. At power-on, P3 is configured as an input.", 8 GND (power) "Ground.", 9 P4 (io) "P-port input/output. Push-pull design structure. At power-on, P4 is configured as an input.", 10 P5 (io) "P-port input/output. Push-pull design structure. At power-on, P5 is configured as an input.", 11 P6 (io) "P-port input/output. Push-pull design structure. At power-on, P6 is configured as an input.", 12 P7 (io) "P-port input/output. Push-pull design structure. At power-on, P7 is configured as an input.", 13 ~{INT} (oc) "Interrupt output. Connect to VCC through a pullup resistor.", 14 SCL (in) "Serial clock bus. Connect to VCC through a pullup resistor.", 15 SDA (io) "Serial data bus. Connect to VCC through a pullup resistor.", 16 VCC (power) "Supply voltage."

## TCA9543APWR
designator U?
IC I2C SW 2CH W/RESET 14TSSOP; Manufacturer 1: Texas Instruments; ComponentLink1Description: Datasheet; ComponentLink1URL: C:\Users\Public\Documents\Altium\AD16\Library\PDF\tca9543a.pdf; Supplier 1: Digi-Key; Supplier Part Number 1: 296-42157-1-ND; Manufacturer Part Number 1: TCA9543APWR; Operating Temperature: -40°C ~ 85°C
footprint TSOP_PW14_L (TSOP, 14-Leads, Body 5x4.4mm, Pitch 0.65mm, IPC High Density)
pins: 1 A0 (in), 2 A1 (in) "Address input. Connect directly to VCC or ground.", 3 ~{RESET} (in), 4 ~{INT0} (in), 5 SD0 (io), 6 SC0 (out), 7 GND (power) "Ground.", 8 ~{INT1} (in), 9 SD1 (io), 10 SC1 (out), 11 ~{INT} (oc) "Interrupt output. Connect to VCC through a pullup resistor.", 12 SCL (in) "Serial clock bus. Connect to VCC through a pullup resistor.", 13 SDA (io) "Serial data bus. Connect to VCC through a pullup resistor.", 14 VCC (power) "Supply voltage."

## TDA04H0SB1R
designator SW?
SWITCH SLIDE DIP SPST 25MA 24V; Manufacturer 1: C&K; Pitch: 1.27mm; Number of Contact: 4; Supplier 1: Digi-Key; Manufacturer Part Number 1: TDA04H0SB1R; ComponentLink1URL: C:\Users\Public\Documents\Altium\AD16\Library\PDF\tda.pdf; ComponentLink1Description: Drawing; Supplier Part Number 1: CKN9502CT-ND
footprint 4POS_DIP_SWITCH (SWITCH SLIDE DIP SPST 1.27mm pitch)
pins: 1 (power), 2 (power), 3 (power), 4 (power), 5 (power), 6 (power), 7 (power), 8 (power)

## TEST PAD TH 51X36
designator TP?, comment Jumper  (value not drawn)  (no BOM)
Test Pad TH 51X36; Manufacturer Part Number: none; Description_: TEST Pad, PIN sized, 51pad, 36 FHS; Populated: Yes; Manufacturer: none; Category: Non BOM Item; Type: Male; Mounting Type: Through Hole; Supplier 1: none; Supplier Part Number 1: none
footprint TP_PAD51D36 (TEST POINT, PLATED THRU HOLE PAD51_DRILL36)
pins: 1 P1

## Test Point
designator TP?, comment TP  (value not drawn)  (no BOM)
Test Point
footprint TP
pins: 1

## TPD4E05U06DQAR
designator U?
TVS DIODE 5.5VWM 14VC 10SON; Manufacturer 1: Texas Instruments; ComponentLink1Description: Datasheet; ComponentLink1URL: C:\Users\Public\Documents\Altium\AD16\Library\PDF\tpd4e05u06.pdf; Supplier 1: Digi-Key; Supplier Part Number 1: 296-35765-1-ND; Manufacturer Part Number 1: TPD4E05U06DQAR; Operating Temperature: -40°C ~ 125°C (TA)
footprint TPD4E05U06DQAR (TVS DIODE 5.5VWM 14VC 10SON)
pins: 1 D1+, 2 D1-, 3 GND, 4 D2+, 5 D2-, 6 NC, 7 NC, 8 GND, 9 NC, 10 NC

## TPD8S009DSMR
designator D?
TVS DIODE 5.5VWM 15SON; Manufacturer_Part_Number: TPD8S009DSMR; Vendor: Texas Instruments; Section: Power Management; C: Copyright (C) 2015 Accelerated Designs. All rights reserved; Family: Power Misc; Manufacturer_Name: Texas Instruments; Copyright: Copyright (C) 2015 Accelerated Designs. All rights reserved; RS_Part_Number: 7099082; Value: Value; Type: Type; RefDes: RefDes; Supplier 1: Digi-Key; Supplier Part Number 1: 296-23829-1-ND
footprint DSM15 (TVS DIODE 5.5VWM 15SON)
pins: 1 D0+ (out), 2 GND (power), 3 D0- (out), 4 D1+ (out), 5 GND (power), 6 D1- (out), 7 D2+ (out), 8 GND (power), 9 D2- (out), 10 D3+ (out), 11 GND (power), 12 D3- (out), 13 VCC (power), 14 NC, 15 VCC (power)

## TPM_header
designator U?
GC-TPM-rev-20; Controller: Infineon SLB9665TT2.0 FW5.51; Interface: TPM header key, LPC bus PH/2*10K4/BUL/2.54; Motherboard: GIGABYTE
footprint PIN HEADER 20POS (TPM HEADER for TPM Module GC-TPM2.0)
pins: 1 LCLK (power), 2 GND (power), 3 LFRAME (power), 5 LRESET (power), 6 NC (power), 7 LAD3 (power), 8 LAD2 (power), 9 VCC3 (power), 10 LAD1 (power), 11 LAD0 (power), 12 GND (power), 13 NC (power), 14 ID (power), 15 SB3V (power), 16 SERIRQ (power), 17 GND (power), 18 NC (power), 19 NC (power), 20 SUSCLK (power)

## TPS51200DRCT
designator U?
IC SINK/SOURCE DDR REG 10-SON; Manufacturer 1: Texas Instruments; ComponentLink1Description: Datasheet; ComponentLink1URL: C:\Users\Public\Documents\Altium\AD16\Library\PDF\tps51200.pdf; Supplier 1: Digi-Key; Supplier Part Number 1: 296-23830-1-ND; Manufacturer Part Number 1: TPS51200DRCT; Operating Temperature: -40°C ~ 85°C
footprint DRC_S-PVSON-N10 (TI 3mmx3mm DRC S-PVSON-N10 Package)
pins: 1 REFIN, 2 VLDOIN, 3 VO, 4 PGND, 5 VOSNS, 6 REFOUT, 7 EN (in), 8 GND, 9 PGOOD (out), 10 VIN, 11 PAD

## TPS62173DSGT
designator U?
IC REG BUCK 5V 0.5A SYNC 8WSON; Manufacturer 1: Texas Instruments; Current - Output: 500mA; Voltage - Input (Max): 17V; ComponentLink1Description: Datasheet; ComponentLink1URL: C:\Users\Public\Documents\Altium\AD16\Library\PDF\tps62173.pdf; Supplier 1: Digi-Key; Supplier Part Number 1: 296-29866-1-ND; Manufacturer Part Number 1: TPS62173DSGT; Operating Temperature: -40°C ~ 85°C (TA)
footprint WSON_08 (TI WSON 0.8 Package  2mmx2mm)
pins: 1 PGND, 2 VIN (in), 3 EN (in), 4 AGND, 5 FB (in), 6 VOS (in), 7 SW (out), 8 PG (out), 9 PAD

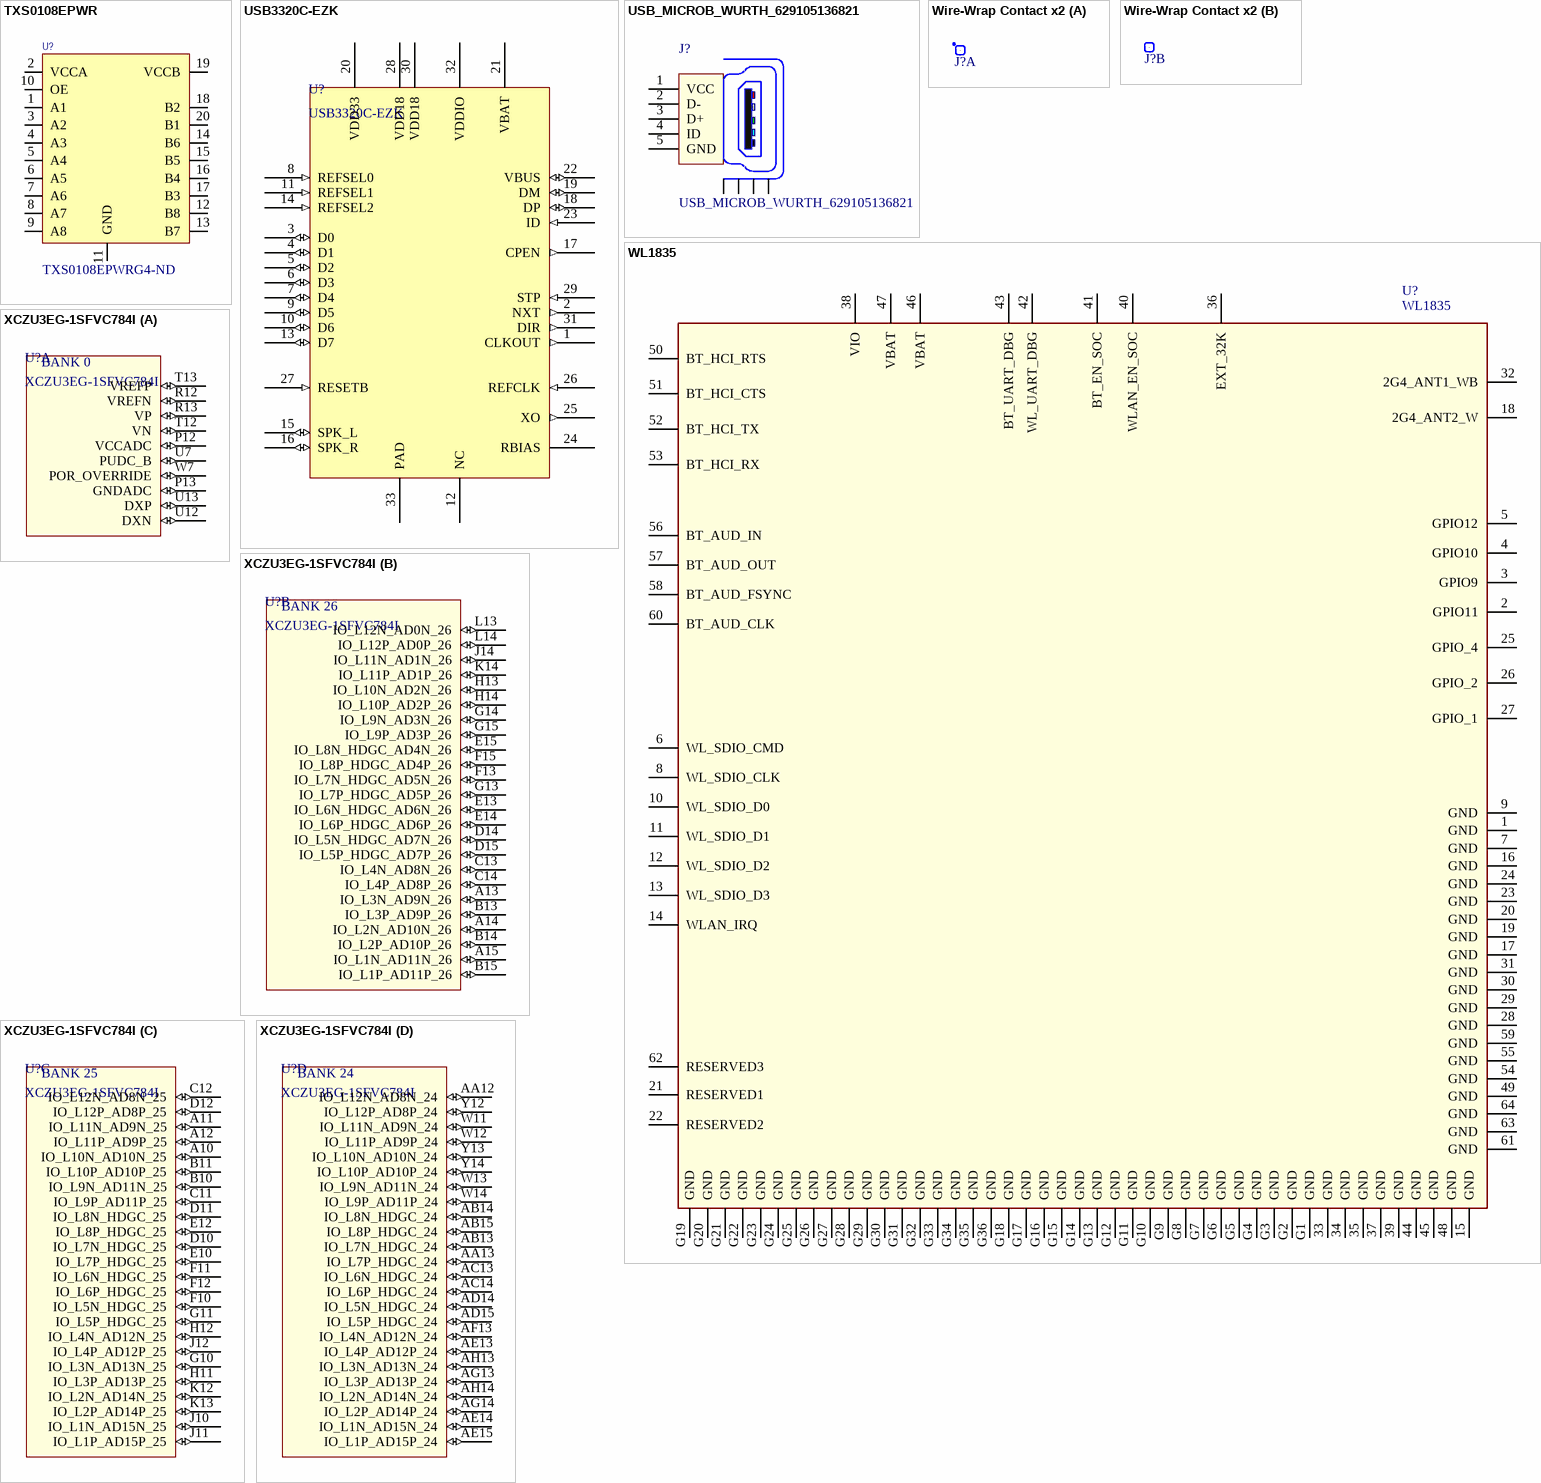
[diagram p6: symbols TXS0108EPWR to XCZU3EG-1SFVC784I]

## TXS0108EPWR
designator U?  Supplier Part Number: TXS0108EPWRG4-ND  (hidden comment: TXS0108EPWR)
IC 8BIT NON-INV TRANSLTR 20TSSOP; Manufacturer Part Number: TXS0108EPWRG4; Manufacturer: Texas Instruments; Voltage - VCCA: 1.2 V ~ 3.6 V; Channels per Circuit: 8; Output Type: Open Drain, Push-Pull; Channel Type: Bidirectional; Data Rate: 60Mbps; Voltage - VCCB: 1.65 V ~ 5.5 V; Number of Circuits: 1; Translator Type: Voltage Level; Features: Auto-Direction Sensing; Mounting Type: Surface Mount; Output Signal: -; RoHS: RoHS Compliant; Input Signal: -; Packaging: Tape & Reel (TR); Operating Temperature: -40°C ~ 85°C (TA); Supplier: Digi-Key; Category: Integrated Circuits (ICs); Package / Case: 20-TSSOP (0.173", 4.40mm Width); Supplier Device Package: 20-TSSOP
footprint SOP65P640X120-20N (SOP, 20-Leads, Body 6.5x4.4mm, Pitch 0.65mm, IPC Medium Density)
pins: 1 A1, 2 VCCA, 3 A2, 4 A3, 5 A4, 6 A5, 7 A6, 8 A7, 9 A8, 10 OE, 11 GND, 12 B8, 13 B7, 14 B6, 15 B5, 16 B4, 17 B3, 18 B2, 19 VCCB, 20 B1

## USB3320C-EZK
designator U?
IC TXRX USB 2.0 FLEXPWR 32QFN; Manufacturer 1: Microchip Technology; ComponentLink1Description: Datasheet; ComponentLink1URL: C:\Users\Public\Documents\Altium\AD16\Library\PDF\00001792E.pdf; Supplier 1: Digi-Key; Supplier Part Number 1: USB3320C-EZK-ND; Manufacturer Part Number 1: USB3320C-EZK; Operating Temperature: -40°C ~ 85°C
footprint QFN50P500X500X100_HS-33N (QFN, 32-Leads, Body 5.00x5.00mm, Pitch 0.50mm, Thermal Pad 3.30x3.30mm, IPC Medium Density)
pins: 1 CLKOUT (out), 2 NXT (out), 3 D0 (io), 4 D1 (io), 5 D2 (io), 6 D3 (io), 7 D4 (io), 8 REFSEL0 (in), 9 D5 (io), 10 D6 (io), 11 REFSEL1 (in), 12 NC, 13 D7 (io), 14 REFSEL2 (in), 15 SPK_L (io), 16 SPK_R (io), 17 CPEN (out), 18 DP (io), 19 DM (io), 20 VDD33, 21 VBAT, 22 VBUS (io), 23 ID (in), 24 RBIAS, 25 XO (out), 26 REFCLK (in), 27 RESETB (in), 28 VDD18, 29 STP (in), 30 VDD18, 31 DIR (out), 32 VDDIO, 33 PAD

## USB_MICROB_WURTH_629105136821
designator J?
CONN RCPT USB MICRO B R/A SMT; Manufacturer 1: Wurth Electronics Inc; Number of Contacts: 5; Opearating Temperature: -40°C ~ 105°C; ComponentLink1Description: Datasheet; ComponentLink1URL: C:\Users\Public\Documents\Altium\AD16\Library\PDF\629105136821.pdf; Supplier 1: Digi-Key; Manufacturer Part Number 1: 629105136821; Supplier Part Number 1: 732-3155-1-ND
footprint USB_MICROB_WURTH_629105136821 (5 pins)
pins: 1 VCC, 2 D-, 3 D+, 4 ID, 5 GND, Z1 Shield, Z2 Shield, Z3 Shield, Z4 Shield

## Wire-Wrap Contact x2
designator J?, comment Test Point  (value not drawn)
2 Mini Wire-Wrap Contact Strip Header; Part Number: COMATEL_385.0358.1.02.400; Part Description: 2 Contacts Straight Strip Header Pitch 2.54mm L=6.3mm ''Mini-Wire-Wrap''; Manufacturer: KONTEK COMATEL; Manufacturer Part Number: 385.0358.1.02.400; Table: COMATEL; Component Kind: Standard; Component Type: Standard; Footprint: COMATEL_385.0358.1.02.400; Pin Count: 2; Family: Test Point; Mounted: Yes; Socket: No; SMD: No; Status: Not recommended; ComponentHeight: 8mm; HelpURL: \\cern.ch\dfs\Applications\Altium\Datasheets\COMATEL_385.0358.1.02.400.pdf; Author: CERN DEM JLC; CreateDate: 30.06.2010; LatestRevisionDate: 10.10.2012
footprint COMATEL_385.0358.1.02.400
part A pins: 1 (io)
part B pins: 2 (io)

## WL1835
designator U?
MODULE WIFI WILINK; Manufacturer Part Number: WL1835MODGBMOCR; Manufacturer: Texas Instruments; Voltage - Supply: 2.9 V ~ 4.8 V; Power - Output: 17.3dBm; Sensitivity: -96.3dBm; Protocol: 802.11a/b/g/n, Bluetooth v4.1 Low Energy (BLE); Frequency: 2.4GHz ~ 2.48GHz; Current - Receiving: 85mA; Data Rate: 100Mbps; RF Family/Standard: Bluetooth, WiFi; Current - Transmitting: 420mA; Antenna Type: Integrated, Chip; Serial Interfaces: UART; Category: RF/IF and RFID; Modulation: -; Memory Size: -; Supplier: Digi-Key; RoHS: RoHS Compliant By Exemption; Packaging: Tape & Reel (TR); Package / Case: Module; Operating Temperature: -40°C ~ 85°C; Mounting Type: Surface Mount; Supplier Part Number: 296-38032-2-ND
footprint E-13.4X13.3-N100_0.75-TOP
pins: 1 GND (power), 2 GPIO11, 3 GPIO9, 4 GPIO10, 5 GPIO12, 6 WL_SDIO_CMD, 7 GND (power), 8 WL_SDIO_CLK, 9 GND (power), 10 WL_SDIO_D0, 11 WL_SDIO_D1, 12 WL_SDIO_D2, 13 WL_SDIO_D3, 14 WLAN_IRQ, 15 GND (power), 16 GND (power), 17 GND (power), 18 2G4_ANT2_W, 19 GND (power), 20 GND (power), 21 RESERVED1, 22 RESERVED2, 23 GND (power), 24 GND (power), 25 GPIO_4, 26 GPIO_2, 27 GPIO_1, 28 GND (power), 29 GND (power), 30 GND (power), 31 GND (power), 32 2G4_ANT1_WB, 33 GND (power), 34 GND (power), 35 GND (power), 36 EXT_32K, 37 GND (power), 38 VIO (power), 39 GND (power), 40 WLAN_EN_SOC, 41 BT_EN_SOC, 42 WL_UART_DBG, 43 BT_UART_DBG, 44 GND (power), 45 GND (power), 46 VBAT (power), 47 VBAT (power), 48 GND (power), 49 GND (power), 50 BT_HCI_RTS, 51 BT_HCI_CTS, 52 BT_HCI_TX, 53 BT_HCI_RX, 54 GND (power), 55 GND (power), 56 BT_AUD_IN, 57 BT_AUD_OUT, 58 BT_AUD_FSYNC, 59 GND (power), 60 BT_AUD_CLK, 61 GND (power), 62 RESERVED3, 63 GND (power), 64 GND (power), G1 GND (power), G2 GND (power), G3 GND (power), G4 GND (power), G5 GND (power), G6 GND (power), G7 GND (power), G8 GND (power), G9 GND (power), G10 GND (power), G11 GND (power), G12 GND (power), G13 GND (power), G14 GND (power), G15 GND (power), G16 GND (power), G17 GND (power), G18 GND (power), G19 GND (power), G20 GND (power), G21 GND (power), G22 GND (power), G23 GND (power), G24 GND (power), G25 GND (power), G26 GND (power), G27 GND (power), G28 GND (power), G29 GND (power), G30 GND (power), G31 GND (power), G32 GND (power), G33 GND (power), G34 GND (power), G35 GND (power), G36 GND (power)

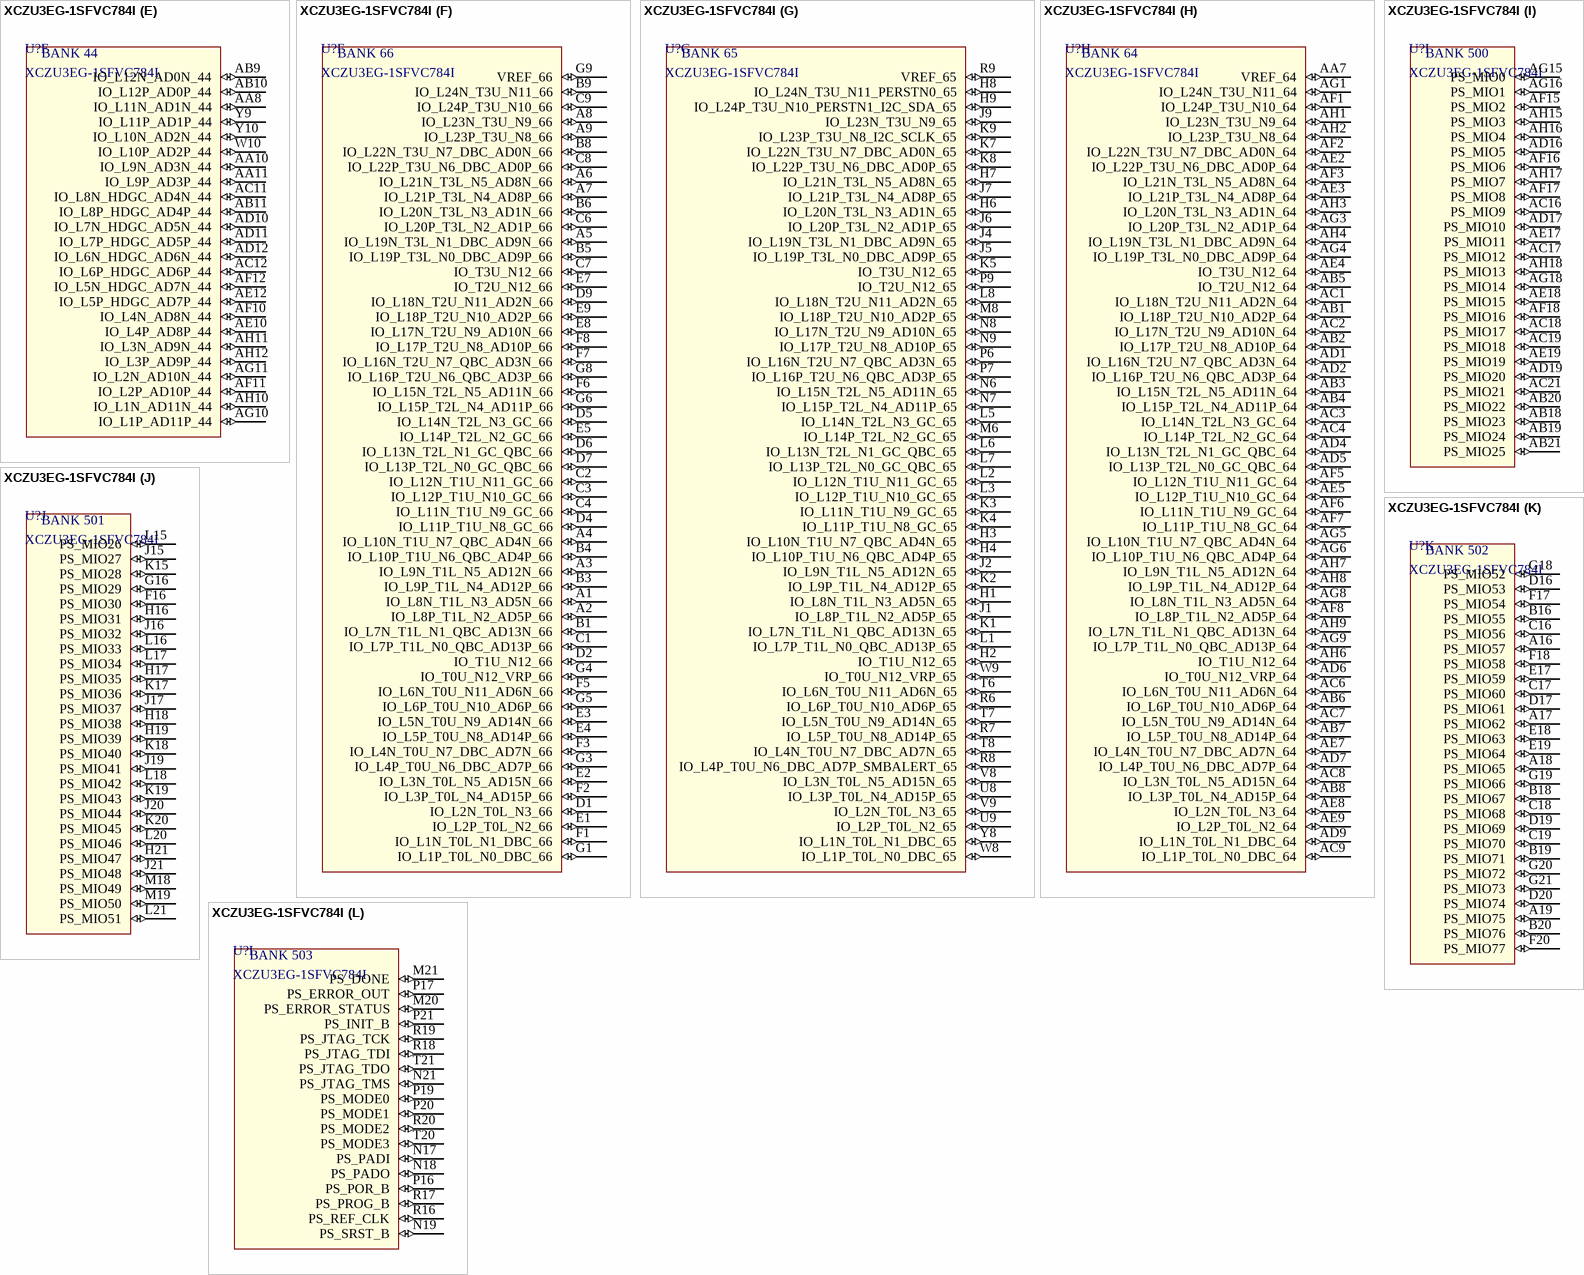
[diagram p7: symbol XCZU3EG-1SFVC784I]

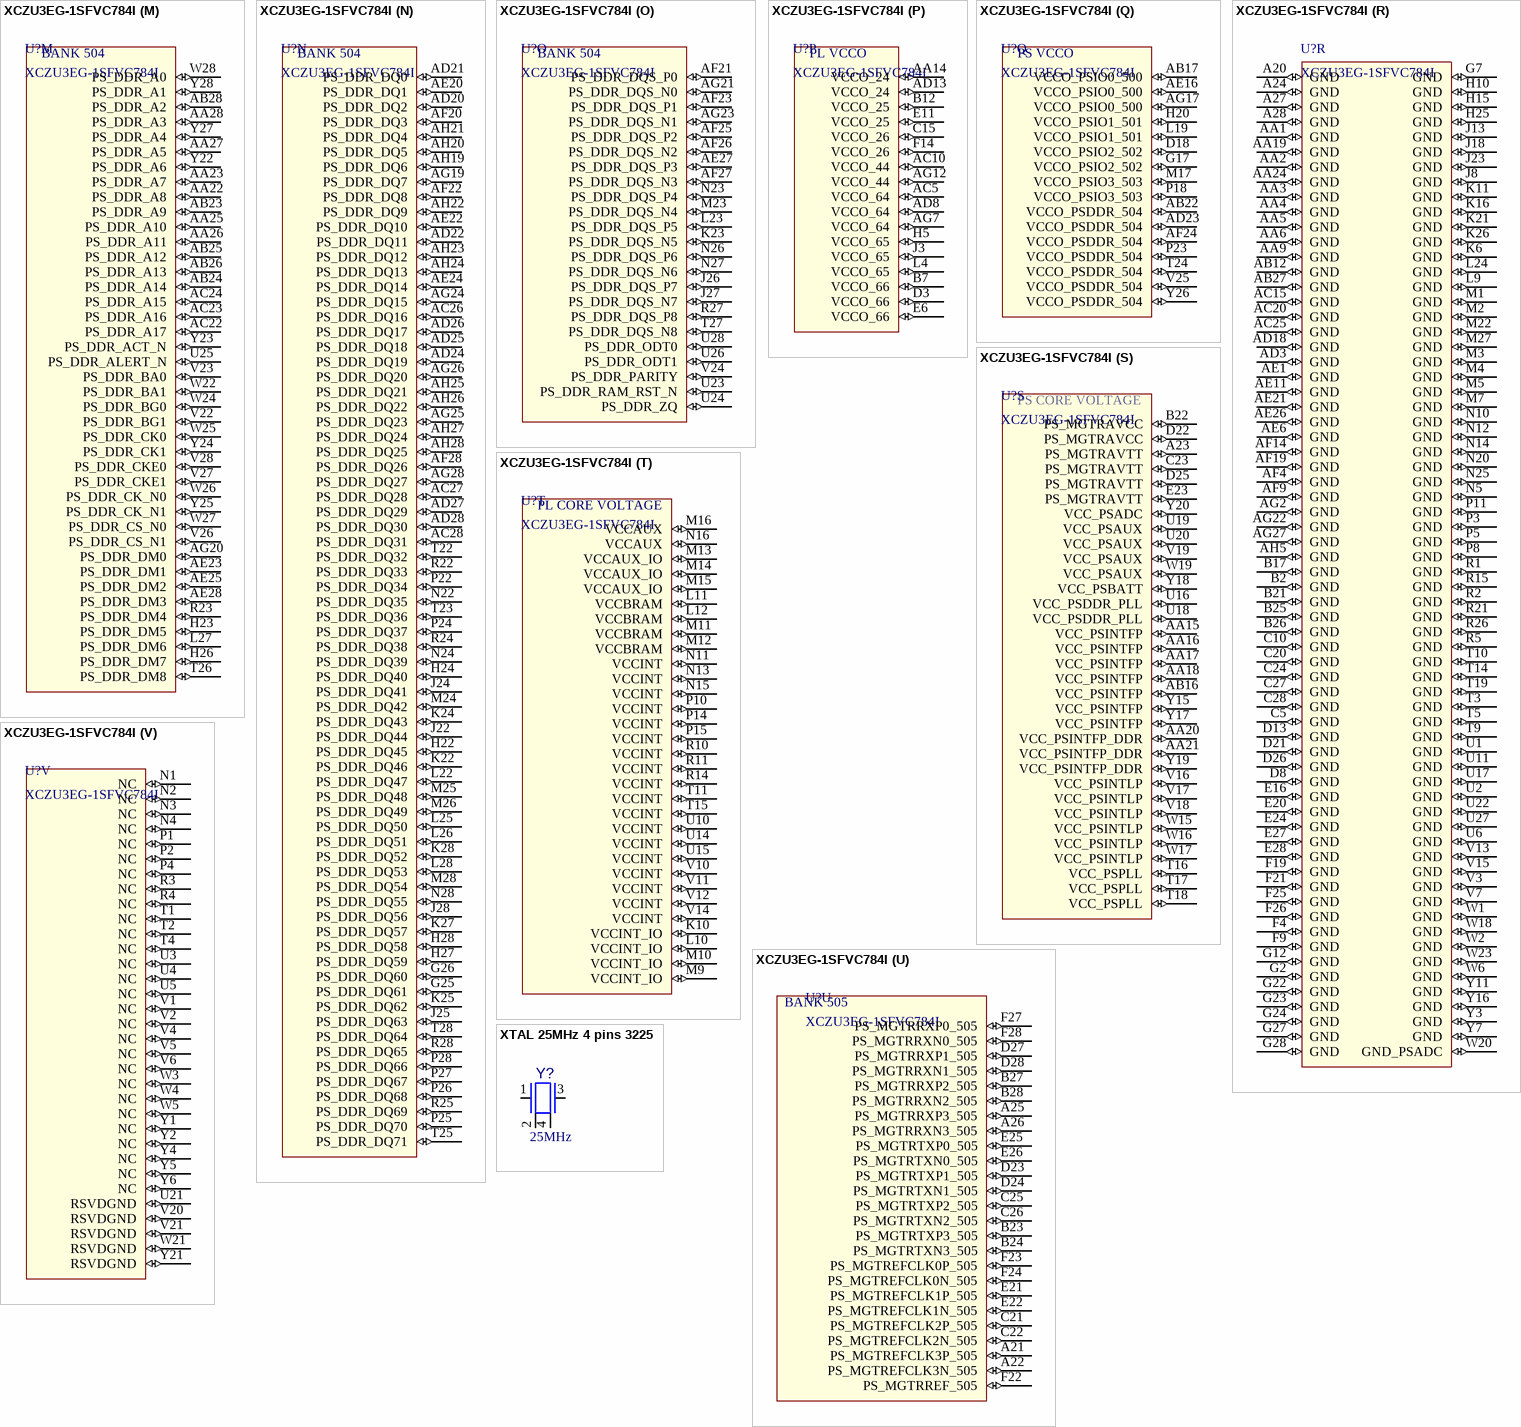
[diagram p8: symbols XCZU3EG-1SFVC784I to XTAL 25MHz 4 pins 3225]